# Altium footprint library LCD_DISPLAY_0.PcbLib: 1 footprints
Each footprint in its own frame and in the unit in brackets; x right, y up, seen from the top. Pads: shape width x height; smd on the part's side, far side on the other; paste and mask are expansions set on the pad; w line width, h text height; cw(c..) or ccw(c..) is an arc to the next point about the centre after c.
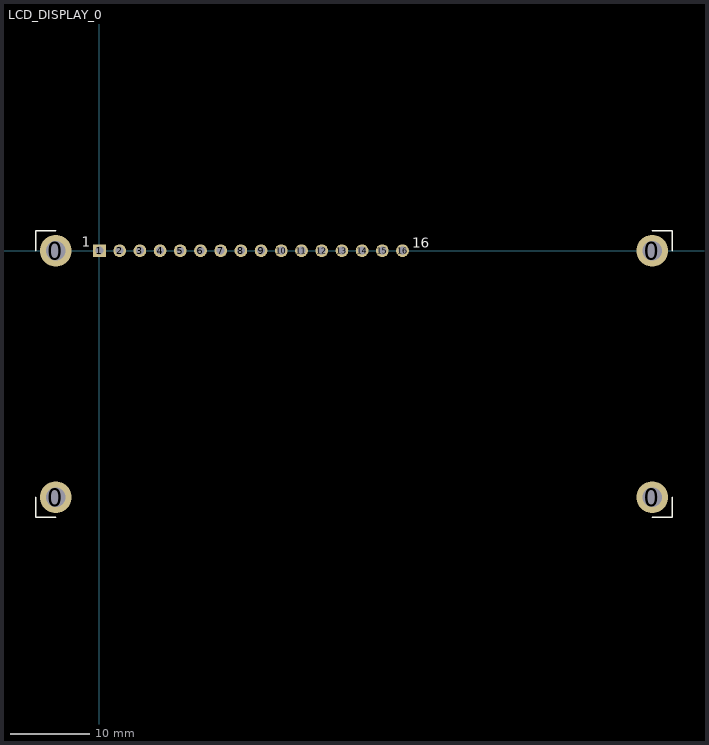
[diagram p0: the footprint, top view; thin cyan lines are the x and y axes]

## LCD_DISPLAY_0 [mm] "LCD Character Display Module 16-pin"
pads (20):
  round 4 hole 2.5: 0(-5.5,-31) 0(-5.5,0) 0(69.5,-31) 0(69.5,0)
  rect 1.6x1.6 hole 1: 1(0,0)
  round 1.6 hole 1: 2(2.54,0) 3(5.08,0) 4(7.62,0) 5(10.16,0) 6(12.7,0) 7(15.24,0) 8(17.78,0) 9(20.32,0) 10(22.86,0) 11(25.4,0) 12(27.94,0) 13(30.48,0) 14(33.02,0) 15(35.56,0) 16(38.1,0)
Top Overlay:
  lines w0.2: -8,-31 -8,-33.5 -5.5,-33.5 ; -8,0 -8,2.5 -5.5,2.5 ; 69.5,-33.5 72,-33.5 72,-31 ; 69.5,2.5 72,2.5 72,0
  text "1" at -2.25,0.5 h1.25
  text "16" at 39.35,0.4 h1.25
3D body "LCD2x16.SLDPRT": height 11.14, standoff -6, extent -8,-33.511 72,2.489